# Altium footprint library Diode.PcbLib: 53 footprints (part 2 of 4)
Each footprint in its own frame and in the unit in brackets; x right, y up, seen from the top. Pads: shape width x height; smd on the part's side, far side on the other; paste and mask are expansions set on the pad; w line width, h text height; cw(c..) or ccw(c..) is an arc to the next point about the centre after c.
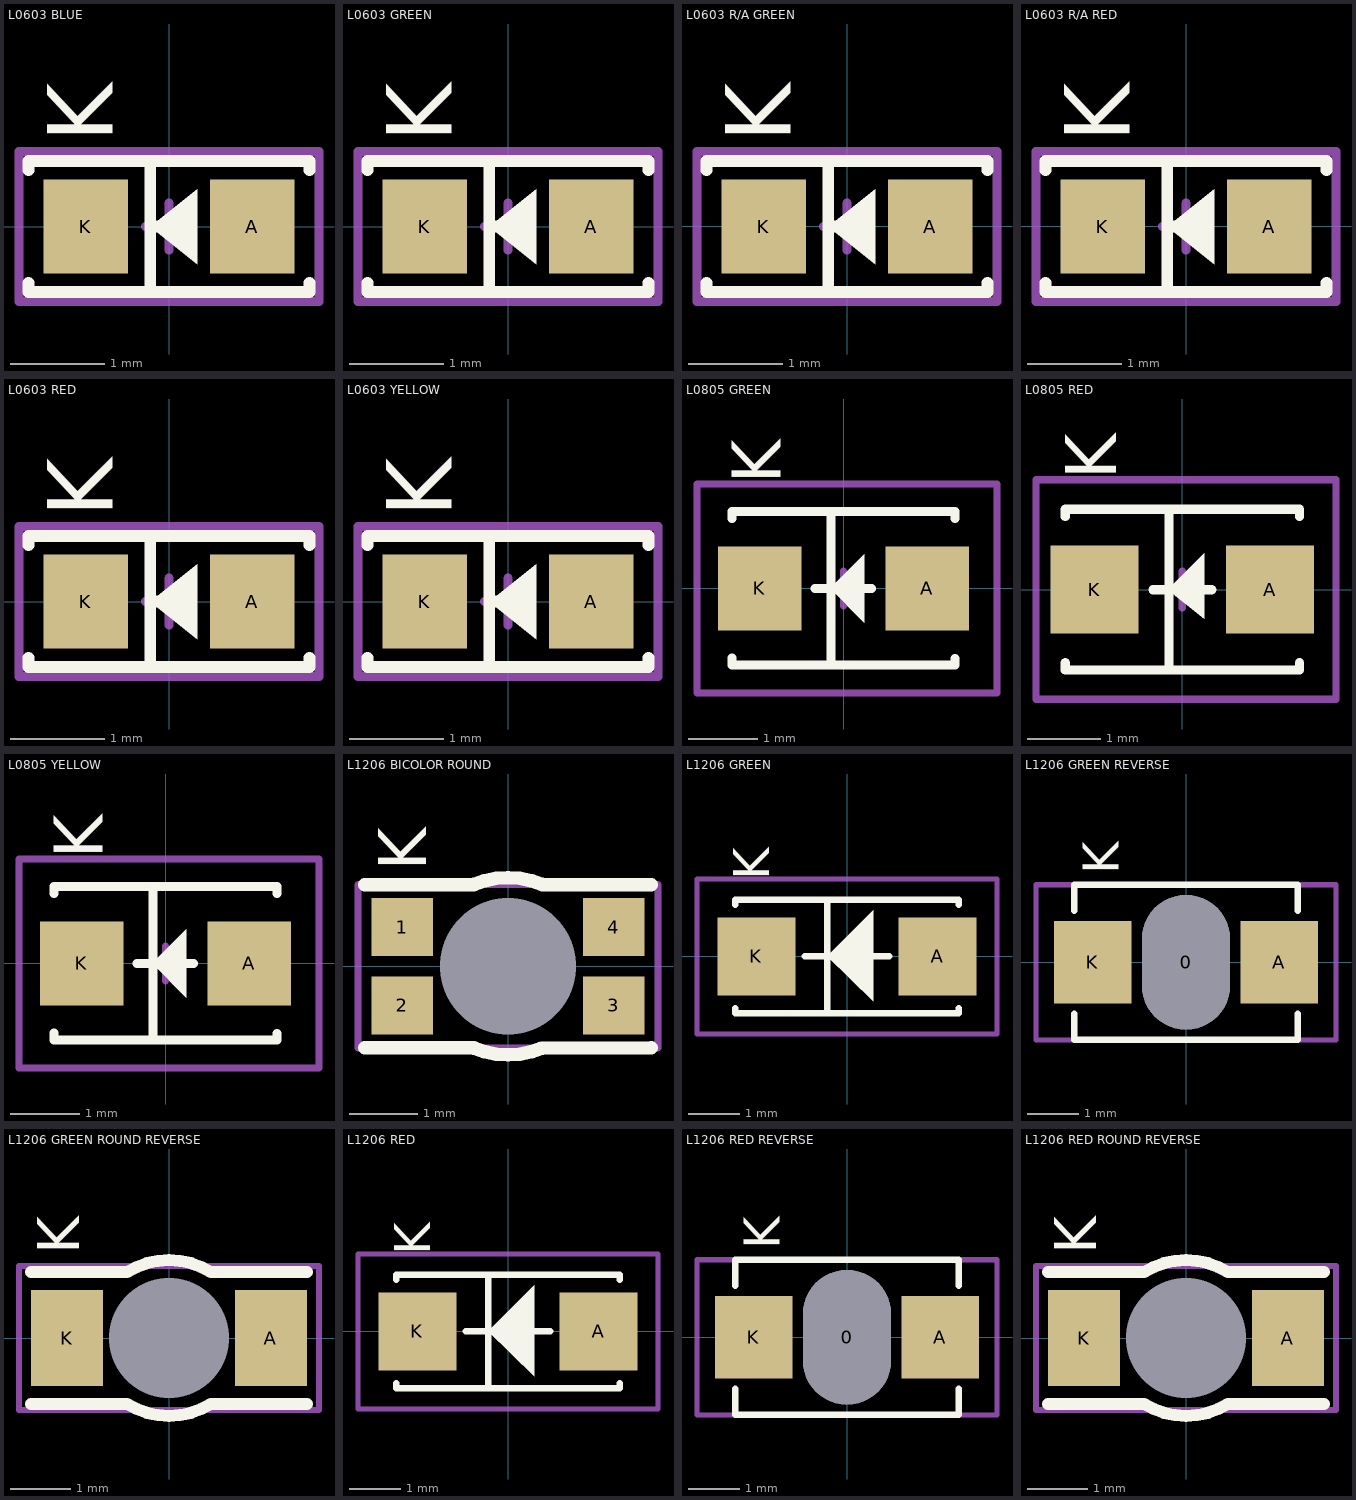
[diagram p1: the footprints below, top view; thin cyan lines are the x and y axes]

## L0603 BLUE [mm] "LED BLUE CLEAR 0603 SMD"
pads (2):
  rect 0.9x1 smd: A(0.889,-0.001) K(-0.889,-0.001)
Top Overlay:
  region: -0.2,0 0.3,0.4 0.3,0 0.3,-0.4
  lines w0.127: -1.5,-0.6 -1.5,-0.7 1.5,-0.7 1.5,-0.6 ; -1.5,0.6 -1.5,0.7 1.5,0.7 1.5,0.6 ; -0.2,-0.7 -0.2,0.7 ; -0.2,0 0.2,0
  text "K" at -0.6,0.9 h0.7
Mechanical 15:
  lines w0.1: -0.25,0 0.25,0 ; 0,-0.25 0,0.25 ; -1.6,-0.8 -1.6,0.8 1.6,0.8 1.6,-0.8 -1.6,-0.8
3D body "User Library-LTST-C190TBKT.STEP": height 0.9, standoff 0, extent -0.85,-0.45 0.85,0.45

## L0603 GREEN [mm] "LED GREEN CLEAR 0603 SMD"
pads (2):
  rect 0.9x1 smd: A(0.889,-0.001) K(-0.889,-0.001)
Top Overlay:
  region: -0.2,0 0.3,0.4 0.3,0 0.3,-0.4
  lines w0.127: -1.5,-0.6 -1.5,-0.7 1.5,-0.7 1.5,-0.6 ; -1.5,0.6 -1.5,0.7 1.5,0.7 1.5,0.6 ; -0.2,-0.7 -0.2,0.7 ; -0.2,0 0.2,0
  text "K" at -0.6,0.9 h0.7
Mechanical 15:
  lines w0.1: -0.25,0 0.25,0 ; 0,-0.25 0,0.25 ; -1.6,-0.8 -1.6,0.8 1.6,0.8 1.6,-0.8 -1.6,-0.8
3D body "User Library-LTST-C190GKT.STEP": height 0.9, standoff 0, extent -0.85,-0.45 0.85,0.45

## L0603 R/A GREEN [mm] "LED GREEN CLEAR 0603 R/A SMD"
height 0.6
pads (2):
  rect 0.9x1 smd: A(0.889,-0.001) K(-0.889,-0.001)
Top Overlay:
  region: -0.2,0 0.3,0.4 0.3,0 0.3,-0.4
  lines w0.127: -1.5,-0.6 -1.5,-0.7 1.5,-0.7 1.5,-0.6 ; -1.5,0.6 -1.5,0.7 1.5,0.7 1.5,0.6 ; -0.2,-0.7 -0.2,0.7 ; -0.2,0 0.2,0
  text "K" at -0.6,0.9 h0.7
Mechanical 15:
  lines w0.1: -0.25,0 0.25,0 ; 0,-0.25 0,0.25 ; -1.6,-0.8 1.6,-0.8 1.6,0.8 -1.6,0.8 -1.6,-0.8
3D body "User Library-LTST-S270KGKT-1.step": height 0.6, standoff 0, extent -0.825,-0.34 0.825,0.81

## L0603 R/A RED [mm] "LED RED CLEAR 0603 R/A SMD"
height 0.6
pads (2):
  rect 0.9x1 smd: A(0.889,-0.001) K(-0.889,-0.001)
Top Overlay:
  region: -0.2,0 0.3,0.4 0.3,0 0.3,-0.4
  lines w0.127: -1.5,-0.6 -1.5,-0.7 1.5,-0.7 1.5,-0.6 ; -1.5,0.6 -1.5,0.7 1.5,0.7 1.5,0.6 ; -0.2,-0.7 -0.2,0.7 ; -0.2,0 0.2,0
  text "K" at -0.6,0.9 h0.7
Mechanical 15:
  lines w0.1: -0.25,0 0.25,0 ; 0,-0.25 0,0.25 ; -1.6,-0.8 -1.6,0.8 1.6,0.8 1.6,-0.8 -1.6,-0.8
3D body "User Library-LTST-S270CKT.step": height 0.6, standoff 0, extent -0.825,-0.34 0.825,0.81

## L0603 RED [mm] "LED RED CLEAR 0603 SMD"
pads (2):
  rect 0.9x1 smd: A(0.889,-0.001) K(-0.889,-0.001)
Top Overlay:
  region: -0.2,0 0.3,0.4 0.3,0 0.3,-0.4
  lines w0.127: -1.5,-0.6 -1.5,-0.7 1.5,-0.7 1.5,-0.6 ; -1.5,0.6 -1.5,0.7 1.5,0.7 1.5,0.6 ; -0.2,-0.7 -0.2,0.7 ; -0.2,0 0.2,0
  text "K" at -0.6,0.9 h0.7
Mechanical 15:
  lines w0.1: -0.25,0 0.25,0 ; 0,-0.25 0,0.25 ; -1.6,-0.8 -1.6,0.8 1.6,0.8 1.6,-0.8 -1.6,-0.8
3D body "User Library-LTST-C190EKT.STEP": height 0.9, standoff 0, extent -0.85,-0.45 0.85,0.45

## L0603 YELLOW [mm] "LED YELLOW CLEAR 0603 SMD"
pads (2):
  rect 0.9x1 smd: A(0.889,-0.001) K(-0.889,-0.001)
Top Overlay:
  region: -0.2,0 0.3,0.4 0.3,0 0.3,-0.4
  lines w0.127: -1.5,-0.6 -1.5,-0.7 1.5,-0.7 1.5,-0.6 ; -1.5,0.6 -1.5,0.7 1.5,0.7 1.5,0.6 ; -0.2,-0.7 -0.2,0.7 ; -0.2,0 0.2,0
  text "K" at -0.6,0.9 h0.7
Mechanical 15:
  lines w0.1: -0.25,0 0.25,0 ; 0,-0.25 0,0.25 ; -1.6,-0.8 -1.6,0.8 1.6,0.8 1.6,-0.8 -1.6,-0.8
3D body "User Library-LTST-C190Y.STEP": height 0.9, standoff 0, extent -0.85,-0.45 0.85,0.45

## L0805 GREEN [mm]
height 2
pads (2):
  rect 1.2x1.2 smd paste+0: A(1.2,0) K(-1.2,0)
Top Overlay:
  region: -0.191,0 0.3,0.49 0.3,-0.49
  lines w0.127: -1.6,-1 -1.6,-1.1 1.6,-1.1 1.6,-1 ; -1.6,1 -1.6,1.1 1.2,1.1 1.6,1.1 ; -0.413,0 0.4,0 ; -0.181,-1.1 -0.181,1.1 ; 1.6,1 1.6,1.1 ; 1.6,1.1 1.6,1.1
  text "K" at -0.9,1.5 h0.7
Mechanical 15:
  lines w0.1: -0.25,0 0.25,0 ; 0,-0.25 0,0.25 ; -2.1,-1.5 2.2,-1.5 2.2,1.5 -2.1,1.5 -2.1,-1.5
3D body "User Library-led_0805 (1).step": height 1.1, standoff 0, extent -1.01,-0.625 1.01,0.625

## L0805 RED [mm] "LED RED CLEAR 0805 SMD"
pads (2):
  rect 1.2x1.2 smd paste+0: A(1.2,0) K(-1.2,0)
Top Overlay:
  region: -0.2,0 0.3,0.5 0.3,0 0.3,-0.4
  lines w0.127: -1.6,-1 -1.6,-1.1 1.6,-1.1 1.6,-1 ; -1.6,1 -1.6,1.1 1.6,1.1 1.6,1 ; -0.4,0 0.4,0 ; -0.181,-1.1 -0.181,1.1
  text "K" at -0.9,1.5 h0.7
Mechanical 15:
  lines w0.1: -0.25,0 0.25,0 ; 0,-0.25 0,0.25 ; -2,-1.5 -2,1.5 2.1,1.5 2.1,-1.5 -2,-1.5
3D body "User Library-led_0805.step": height 1.1, standoff 0, extent -1.01,-0.625 1.01,0.625

## L0805 YELLOW [mm]
height 2
pads (2):
  rect 1.2x1.2 smd paste+0: A(1.2,0) K(-1.2,0)
Top Overlay:
  region: -0.191,0 0.3,0.49 0.3,-0.49
  lines w0.127: -1.6,-1 -1.6,-1.1 1.6,-1.1 1.6,-1 ; -1.6,1 -1.6,1.1 1.2,1.1 1.6,1.1 ; -0.413,0 0.4,0 ; -0.181,-1.1 -0.181,1.1 ; 1.6,1 1.6,1.1 ; 1.6,1.1 1.6,1.1
  text "K" at -0.9,1.5 h0.7
Mechanical 15:
  lines w0.1: -0.25,0 0.25,0 ; 0,-0.25 0,0.25 ; -2.1,-1.5 -2.1,1.5 2.2,1.5 2.2,-1.5 -2.1,-1.5
3D body "LED0805_yellow.STEP": height 1.1, standoff 0, extent -1.01,-0.625 1.01,0.625

## L1206 BICOLOR ROUND [mm]
pads (5):
  rrect100% 0x0 hole 2 unplated: 0(0,0)
  rect 0.9x0.85 smd paste+0: 1(-1.55,0.575) 2(-1.55,-0.575) 3(1.55,-0.575) 4(1.55,0.575)
Top Overlay:
  lines w0.2: -2.1,-1.197 -0.5,-1.197 ; -2.1,1.197 -0.5,1.197 ; -0.5,-1.2 ccw(c0,0) 0.5,-1.2 2.1,-1.197 ; -0.5,1.2 cw(c0,0) 0.5,1.2 2.1,1.197
  text "K" at -1.2,1.4 h0.7
Mechanical 15:
  lines w0.1: -0.25,0 0.25,0 ; 0,-0.25 0,0.25 ; -2.2,-1.2 2.2,-1.2 2.2,1.2 -2.2,1.2 -2.2,-1.2
3D body "STEP-WL-SFRW-1205-RECTANGULAR-rev1.stp": height 0.3, standoff -0.5, extent -1.6,-0.6 1.6,0.6

## L1206 GREEN [mm]
pads (2):
  rect 1.5x1.5 smd paste+0: A(1.75,0) K(-1.75,0)
Top Overlay:
  region: -0.381,0 0.508,0.889 0.508,-0.864
  lines w0.127: -2.159,-1 -2.159,-1.1 2.159,-1.1 2.159,-1 ; -2.159,1 -2.159,1.1 2.159,1.1 2.159,1 ; -0.813,0 0.813,0 ; -0.381,-1.1 -0.381,1.1
  text "K" at -1.5,1.475 h0.7
Mechanical 15:
  lines w0.1: -0.25,0 0.25,0 ; 0,-0.25 0,0.25 ; -2.9,-1.5 2.9,-1.5 2.9,1.5 -2.9,1.5 -2.9,-1.5
3D body "User Library-LED 1206 BLUE.STEP": height 1.1, standoff 0, extent -1.6,-0.8 1.6,0.8

## L1206 GREEN REVERSE [mm]
pads (3):
  rrect100% 1.7x2.6 hole 1.7 slot 2.6 at 90 deg unplated: 0(0,0)
  rect 1.5x1.6 smd paste+0: A(1.8,0) K(-1.8,0)
Top Overlay:
  lines w0.127: -2.159,-1 -2.159,-1.5 2.159,-1.5 2.159,-1 ; -2.159,1 -2.159,1.5 2.159,1.5 2.159,1
  text "K" at -1.3,1.7 h0.7
Mechanical 15:
  lines w0.1: -0.25,0 0.25,0 ; 0,-0.25 0,0.25 ; -2.9,-1.5 -2.9,1.5 2.9,1.5 2.9,-1.5 -2.9,-1.5
3D body "LTST-C230KGKT.STEP": height 0.31, standoff -0.8, extent -1.63,-0.8 1.63,0.8

## L1206 GREEN ROUND REVERSE [mm]
pads (3):
  rrect100% 0x0 hole 2 unplated: 0(0,0)
  rect 1.2x1.6 smd paste+0: A(1.7,0) K(-1.7,0)
Top Overlay:
  lines w0.2: -2.297,-1.097 -0.698,-1.097 ccw(c0,0) 0.698,-1.097 2.297,-1.097 ; -2.297,1.097 -0.698,1.097 cw(c0,0) 0.698,1.097 2.297,1.097
  text "K" at -1.5,1.4 h0.7
Mechanical 15:
  lines w0.1: -0.25,0 0.25,0 ; 0,-0.25 0,0.25 ; -2.5,-1.2 -2.5,1.2 2.5,1.2 2.5,-1.2 -2.5,-1.2
3D body "EAISR3216A0.STEP": height 0.33, standoff -0.8, extent -1.63,-0.8 1.63,0.8

## L1206 RED [mm]
pads (2):
  rect 1.5x1.5 smd paste+0: A(1.75,0) K(-1.75,0)
Top Overlay:
  region: -0.381,0 0.508,0.889 0.508,-0.864
  lines w0.127: -2.159,-1 -2.159,-1.1 2.159,-1.1 2.159,-1 ; -2.159,1 -2.159,1.1 2.159,1.1 2.159,1 ; -0.813,0 0.813,0 ; -0.381,-1.1 -0.381,1.1
  text "K" at -1.5,1.475 h0.7
Mechanical 15:
  lines w0.1: -0.25,0 0.25,0 ; 0,-0.25 0,0.25 ; -2.9,-1.5 2.9,-1.5 2.9,1.5 -2.9,1.5 -2.9,-1.5
3D body "User Library-LED 1206 RED.STEP": height 1.1, standoff 0, extent -1.6,-0.8 1.6,0.8

## L1206 RED REVERSE [mm]
pads (3):
  rrect100% 1.7x2.6 hole 1.7 slot 2.6 at 90 deg unplated: 0(0,0)
  rect 1.5x1.6 smd paste+0: A(1.8,0) K(-1.8,0)
Top Overlay:
  lines w0.127: -2.159,-1 -2.159,-1.5 2.159,-1.5 2.159,-1 ; -2.159,1 -2.159,1.5 2.159,1.5 2.159,1
  text "K" at -1.3,1.7 h0.7
Mechanical 15:
  lines w0.1: -0.25,0 0.25,0 ; 0,-0.25 0,0.25 ; -2.9,-1.5 2.9,-1.5 2.9,1.5 -2.9,1.5 -2.9,-1.5
3D body "LTST-C230KRKT.STEP": height 0.31, standoff -0.8, extent -1.63,-0.8 1.63,0.8

## L1206 RED ROUND REVERSE [mm]
pads (3):
  rrect100% 0x0 hole 2 unplated: 0(0,0)
  rect 1.2x1.6 smd paste+0: A(1.7,0) K(-1.7,0)
Top Overlay:
  lines w0.2: -2.297,-1.097 -0.698,-1.097 ccw(c0,0) 0.698,-1.097 2.297,-1.097 ; -2.297,1.097 -0.698,1.097 cw(c0,0) 0.698,1.097 2.297,1.097
  text "K" at -1.5,1.4 h0.7
Mechanical 15:
  lines w0.1: -0.25,0 0.25,0 ; 0,-0.25 0,0.25 ; -2.5,-1.2 2.5,-1.2 2.5,1.2 -2.5,1.2 -2.5,-1.2
3D body "5976x0160xf (Vermelho).STEP": height 0.3, standoff -0.8, extent -1.6,-0.8 1.6,0.8